# Altium footprint library opm_lib.PcbLib: 32 footprints (part 2 of 2)
Each footprint in its own frame and in the unit in brackets; x right, y up, seen from the top. Pads: shape width x height; smd on the part's side, far side on the other; paste and mask are expansions set on the pad; w line width, h text height; cw(c..) or ccw(c..) is an arc to the next point about the centre after c.
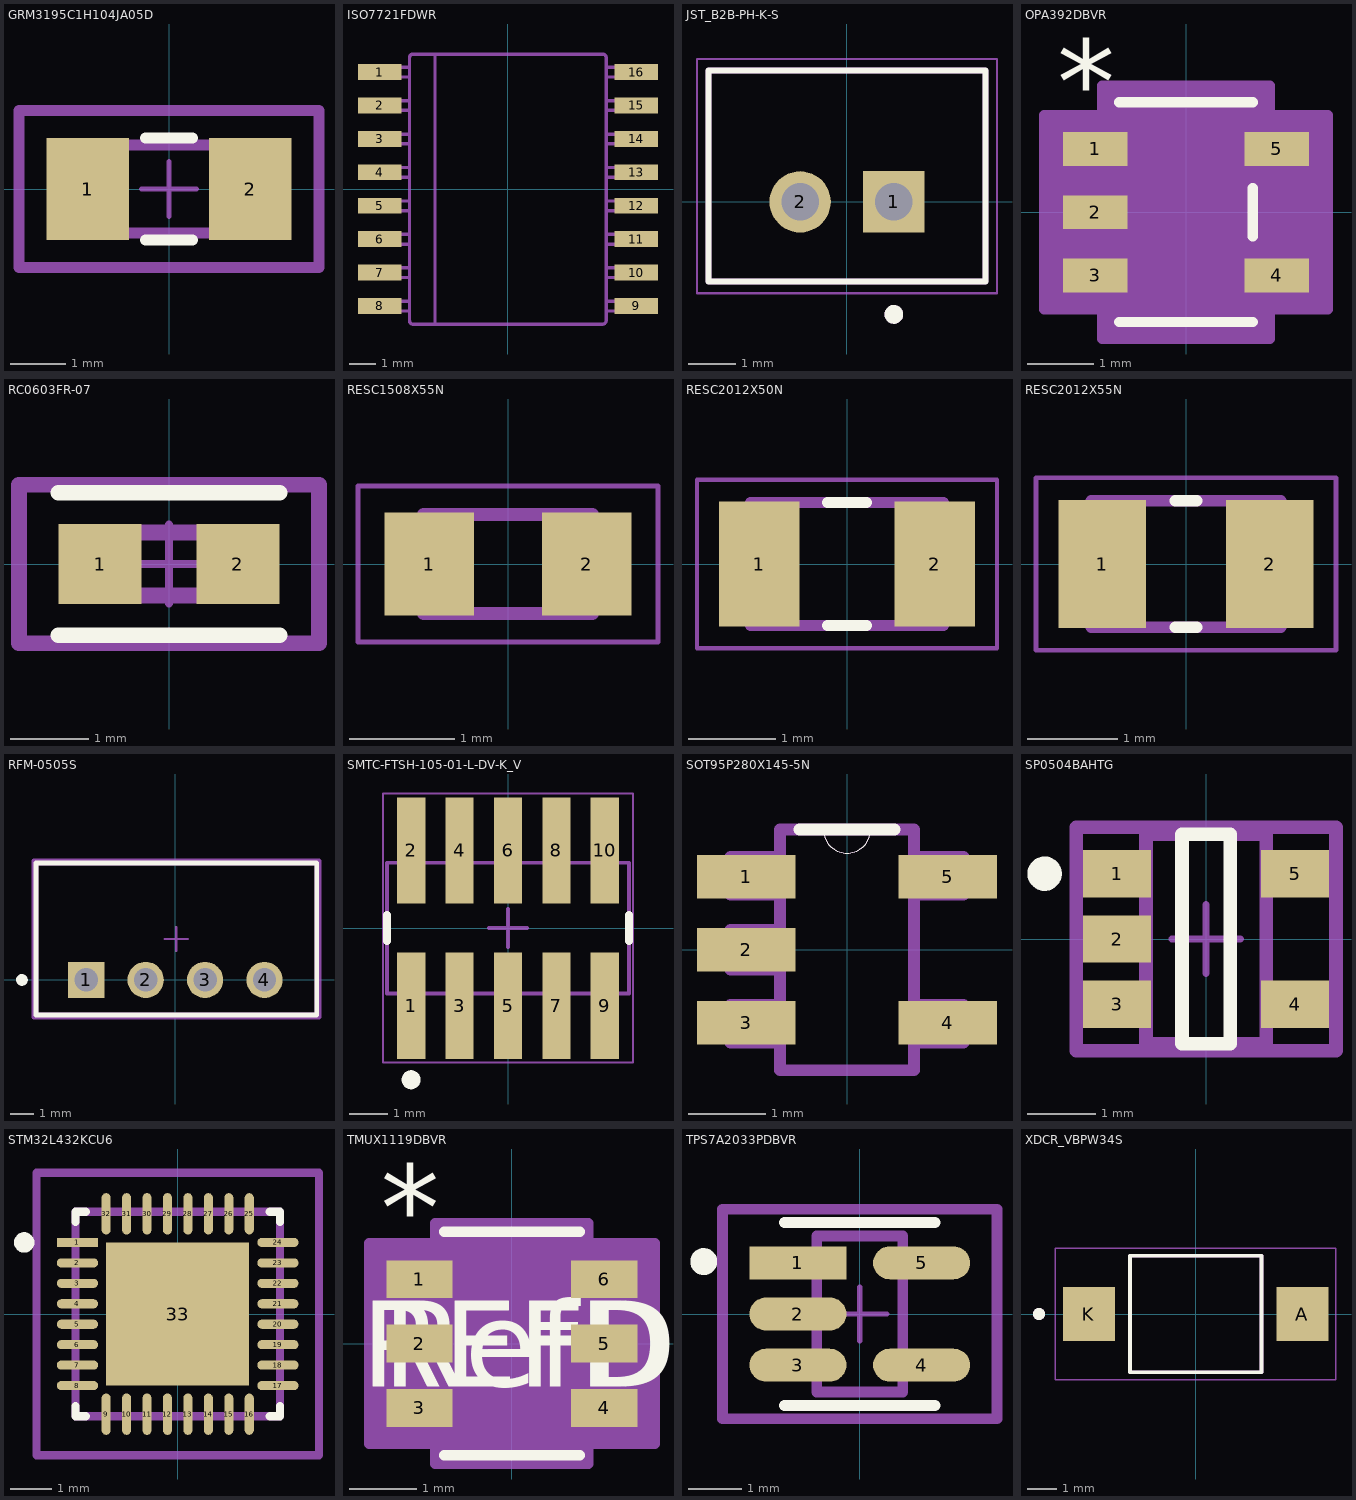
[diagram p1: the footprints below, top view; thin cyan lines are the x and y axes]

## GRM3195C1H104JA05D [mm]
pads (2):
  rect 1.506x1.858 smd paste+0 mask+0: 1(-1.476,0) 2(1.476,0)
Top Overlay:
  lines w0.2: -0.423,-0.929 0.423,-0.929 ; -0.423,0.929 0.423,0.929
Top 3D Body:
  lines w0.2: -1.6,-0.8 1.6,-0.8 1.6,0.8 -1.6,0.8 -1.6,-0.8
Board:
  lines w0.2: -2.729,-1.429 2.729,-1.429 2.729,1.429 -2.729,1.429 -2.729,-1.429
Top Assembly:
  lines w0.2: -2.729,-1.429 2.729,-1.429 2.729,1.429 -2.729,1.429 -2.729,-1.429
  text ".Designator" at 0,0.188 h1
Top Component Center:
  lines w0.1: -0.5,0 0.5,0 ; 0,-0.5 0,0.5
3D body "Cap_Murata_GRM3195C1H273JA01D_eec.STEP": height 0.25, standoff 0, extent -2.729,-1.429 2.729,1.429

## ISO7721FDWR [mm]
pads (16):
  rect 1.65x0.6 smd paste+0 mask+0: 1(-4.875,4.445) 2(-4.875,3.175) 3(-4.875,1.905) 4(-4.875,0.635) 5(-4.875,-0.635) 6(-4.875,-1.905) 7(-4.875,-3.175) 8(-4.875,-4.445) 9(4.875,-4.445) 10(4.875,-3.175) 11(4.875,-1.905) 12(4.875,-0.635) 13(4.875,0.635) 14(4.875,1.905) 15(4.875,3.175) 16(4.875,4.445)
Top Overlay:
  text ".Designator" at -3.492,-0.635 h1.27
Mechanical 13:
  lines w0.1: -2.775,-5.135 -2.775,5.127
  lines w0.127: -3.74,-4.633 -5.15,-4.633 -5.15,-4.265 -3.74,-4.265 ; -3.74,-3.363 -5.15,-3.363 -5.15,-2.995 -3.74,-2.995 ; -3.74,-2.093 -5.15,-2.093 -5.15,-1.725 -3.74,-1.725 ; -3.74,-0.823 -5.15,-0.823 -5.15,-0.455 -3.74,-0.455 ; -3.74,0.447 -5.15,0.447 -5.15,0.815 -3.74,0.815 ; -3.74,1.717 -5.15,1.717 -5.15,2.085 -3.74,2.085 ; -3.74,2.987 -5.15,2.987 -5.15,3.355 -3.74,3.355 ; -3.74,4.257 -5.15,4.257 -5.15,4.625 -3.74,4.625 ; 3.74,-4.633 5.15,-4.633 5.15,-4.265 3.74,-4.265 ; 3.74,-3.363 5.15,-3.363 5.15,-2.995 3.74,-2.995 ; 3.74,-2.093 5.15,-2.093 5.15,-1.725 3.74,-1.725 ; 3.74,-0.823 5.15,-0.823 5.15,-0.455 3.74,-0.455 ; 3.74,0.447 5.15,0.447 5.15,0.815 3.74,0.815 ; 3.74,1.717 5.15,1.717 5.15,2.085 3.74,2.085 ; 3.74,2.987 5.15,2.987 5.15,3.355 3.74,3.355 ; 3.74,4.257 5.15,4.257 5.15,4.625 3.74,4.625 ; -3.74,-5.008 ccw(c-3.613,-5.008) -3.614,-5.135 3.601,-5.135 ccw(c3.6,-5.008) 3.727,-5.008 3.727,5 ccw(c3.6,5) 3.601,5.127 -3.614,5.127 ccw(c-3.613,5) -3.74,5 -3.74,-5.008
  text ".Designator" at -3.492,-0.635 h1.27
3D body "DW0016B.stp": height 2.59, standoff 0, extent -5.174,-5.154 5.161,5.146

## JST_B2B-PH-K-S [mm]
pads (2):
  rect 1.308x1.308 / inner round 1.308 / far side rect 1.308x1.308 hole 0.8: 1(1,0)
  round 1.308 hole 0.8: 2(-1,0)
Top Overlay:
  circle w0.2: c1,-2.4 r0.1
  lines w0.127: -2.95,-1.7 -2.95,2.8 2.95,2.8 2.95,-1.7 -2.95,-1.7
Mechanical 13:
  circle w0.2: c1,-2.4 r0.1
  lines w0.127: -2.95,-1.7 2.95,-1.7 2.95,2.8 -2.95,2.8 -2.95,-1.7
Mechanical 15:
  lines w0.05: -3.2,-1.95 3.2,-1.95 3.2,3.05 -3.2,3.05 -3.2,-1.95
3D body "step_temp.STEP": height 6, standoff -3.4, extent -2.95,-1.7 2.95,2.8

## OPA392DBVR [mil]
pads (5):
  rect 38.28x20 smd paste+0 mask+0: 1(-53.64,37.4) 2(-53.64,0) 3(-53.64,-37.4) 4(53.64,-37.4) 5(53.64,37.4)
Top Overlay:
  lines w6: -39.5,-65 39.5,-65 ; -39.5,65 39.5,65 ; 39.5,-14.3 39.5,14.3
  text ".Designator" at -137.5,-25 h50
  text "*" at -76.14,52.4 h50
Mechanical 13:
  lines w1: -12,60 ccw(c0,60) 12,60 ; -59,-47.4 -59,-27.4 -34.5,-27.4 -34.5,-47.4 -59,-47.4 ; -59,-10 -59,10 -34.5,10 -34.5,-10 -59,-10 ; -59,27.4 -59,47.4 -34.5,47.4 -34.5,27.4 -59,27.4 ; -34.5,-60 34.5,-60 34.5,60 -34.5,60 -34.5,-60 ; 34.5,-47.4 34.5,-27.4 59,-27.4 59,-47.4 34.5,-47.4 ; 34.5,27.4 34.5,47.4 59,47.4 59,27.4 34.5,27.4
  text "*" at -37,9.4 h50
  text ".Designator" at -137.5,-25 h50
Mechanical 15:
  region: 49.5,-75 -49.5,-75 -49.5,-57.4 -84,-57.4 -84,57.4 -49.5,57.4 -49.5,75 49.5,75 49.5,57.4 84,57.4 84,-57.4 49.5,-57.4
  lines w6: -84,-57.4 -49.5,-57.4 -49.5,-75 49.5,-75 49.5,-57.4 84,-57.4 84,57.4 49.5,57.4 49.5,75 -49.5,75 -49.5,57.4 -84,57.4 -84,-57.4
3D body "SOT-23-5_DBV_TEX.step": height 57.09, standoff 0, extent -59.02,-60 59.02,60

## RC0603FR-07 [mm]
pads (2):
  rect 1.059x1.012 smd paste+0 mask+0: 1(-0.877,0) 2(0.877,0)
Top Overlay:
  lines w0.2: -1.406,-0.906 1.406,-0.906 ; -1.406,0.906 1.406,0.906
Top 3D Body:
  lines w0.2: -0.8,-0.4 -0.8,0.4 0.8,0.4 0.8,-0.4 -0.8,-0.4
Board:
  lines w0.2: -1.906,-1.006 -1.906,1.006 1.906,1.006 1.906,-1.006 -1.906,-1.006
Top Assembly:
  lines w0.2: -1.906,-1.006 -1.906,1.006 1.906,1.006 1.906,-1.006 -1.906,-1.006
  text ".Designator" at 0,0.188 h1
Top Component Center:
  lines w0.1: -0.5,0 0.5,0 ; 0,-0.5 0,0.5
3D body "Res_Yageo_RC0603FR-07100KL_eec.STEP": height 0.25, standoff 0, extent -1.906,-1.006 1.906,1.006

## RESC1508X55N [mm]
pads (2):
  rect 0.85x0.98 smd: 1(-0.75,0) 2(0.75,0)
Mechanical 13:
  lines w0.127: -0.8,-0.47 0.8,-0.47 0.8,0.47 -0.8,0.47 -0.8,-0.47
Mechanical 15:
  lines w0.05: -1.425,-0.74 1.425,-0.74 1.425,0.74 -1.425,0.74 -1.425,-0.74
3D body "TNPW0603100KBXEN.STEP": height 0.54, standoff -0.01, extent -0.775,-0.425 0.775,0.425

## RESC2012X50N [mm]
pads (2):
  rect 0.92x1.42 smd: 1(-1,0) 2(1,0)
Top Overlay:
  lines w0.127: -0.22,-0.7 0.22,-0.7 ; -0.22,0.7 0.22,0.7
Mechanical 13:
  lines w0.127: -1.1,-0.7 1.1,-0.7 1.1,0.7 -1.1,0.7 -1.1,-0.7
Mechanical 15:
  lines w0.05: -1.71,-0.96 1.71,-0.96 1.71,0.96 -1.71,0.96 -1.71,-0.96
3D body "step_temp.STEP": height 0.5, standoff 0, extent -1,-0.625 1,0.625

## RESC2012X55N [mm]
pads (2):
  rect 0.97x1.42 smd paste+0 mask+0.102: 1(-0.93,0) 2(0.93,0)
Top Overlay:
  lines w0.127: -0.12,-0.7 0.12,-0.7 ; -0.12,0.7 0.12,0.7
Mechanical 13:
  lines w0.127: -1.05,-0.7 -1.05,0.7 1.05,0.7 1.05,-0.7 -1.05,-0.7
Mechanical 15:
  lines w0.05: -1.665,-0.96 -1.665,0.96 1.665,0.96 1.665,-0.96 -1.665,-0.96
3D body "step_temp.STEP": height 0.55, standoff 0, extent -1,-0.625 1,0.625

## RFM-0505S [mm]
pads (4):
  rect 1.55x1.55 hole 1 paste-2539.97 mask+0: 1(-3.81,0)
  round 1.55 hole 1 paste-2539.97 mask+0: 2(-1.27,0) 3(1.27,0) 4(3.81,0)
Top Overlay:
  circle w0.25: c-6.56,0 r0.125
  lines w0.2: -5.96,-1.5 -5.96,5 6.04,5 6.04,-1.5 -5.96,-1.5
Top 3D Body:
  lines w0.2: -5.96,-1.5 -5.96,5 6.04,5 6.04,-1.5 -5.96,-1.5
Board:
  lines w0.2: -6.06,-1.6 -6.06,5.1 6.14,5.1 6.14,-1.6 -6.06,-1.6
Top Assembly:
  lines w0.2: -6.06,-1.6 -6.06,5.1 6.14,5.1 6.14,-1.6 -6.06,-1.6
  text ".Designator" at 0.04,1.938 h1
Top Component Center:
  lines w0.1: -0.46,1.75 0.54,1.75 ; 0.04,1.25 0.04,2.25
3D body "IC_Recom_Power_RFM-0505S_eec.STEP": height 0.25, standoff 0, extent -6.06,-1.6 6.14,5.1

## SMTC-FTSH-105-01-L-DV-K_V [mm]
pads (10):
  rect 0.74x2.79 smd: 1(-2.54,-2.035) 2(-2.54,2.035) 3(-1.27,-2.035) 4(-1.27,2.035) 5(0,-2.035) 6(0,2.035) 7(1.27,-2.035) 8(1.27,2.035) 9(2.54,-2.035) 10(2.54,2.035)
Top Overlay:
  circle w0.25: c-2.54,-3.98 r0.125
  lines w0.2: -3.175,-0.341 -3.175,0.341 ; 3.175,-0.341 3.175,0.341
Mechanical 13:
  lines w0.1: -3.175,-1.715 3.175,-1.715 3.175,1.715 -3.175,1.715 -3.175,-1.715
Mechanical 15:
  lines w0.05: -3.275,-3.53 3.275,-3.53 3.275,3.53 -3.275,3.53 -3.275,-3.53
  lines w0.1: -0.5,0 0.5,0 ; 0,-0.5 0,0.5
3D body "FTSH-105-01-L-DV-K.stp": height 6.12, standoff 0, extent -3.175,-2.921 3.175,2.921

## SOT95P280X145-5N [mil]
pads (5):
  rect 50x22 smd: 1(-51,37) 2(-51,0) 3(-51,-37) 4(51,-37) 5(51,37)
Top Overlay:
  lines w0: -12,61 ccw(c0,61) 12,61
  lines w6: -24,61 -12,61 12,61 24,61
Mechanical 13:
  lines w0: -12,61 ccw(c0,61) 12,61
  lines w6: -34,-47 -59,-47 -59,-28 -34,-28 ; -34,-47 -34,-28 ; -34,-47 -34,-61 34,-61 34,-47 ; -34,-28 -34,-10 ; -34,-10 -59,-10 -59,10 -34,10 ; -34,-10 -34,10 ; -34,10 -34,28 ; -34,28 -59,28 -59,47 -34,47 ; -34,28 -34,47 ; -34,47 -34,61 -12,61 12,61 34,61 34,47 ; 34,-47 59,-47 59,-28 34,-28 ; 34,-47 34,-28 ; 34,-28 34,28 ; 34,28 59,28 59,47 34,47 ; 34,28 34,47
3D body "step_temp.STEP": height 57.09, standoff 0, extent -53.15,-57.09 53.15,57.09

## SP0504BAHTG [mm]
pads (5):
  rect 0.99x0.69 smd paste+0 mask+0: 1(-1.295,0.95) 2(-1.295,0) 3(-1.295,-0.95) 4(1.295,-0.95) 5(1.295,0.95)
Top Overlay:
  circle w0.25: c-2.35,0.95 r0.125
  lines w0.2: -0.35,-1.525 -0.35,1.525 0.35,1.525 0.35,-1.525 -0.35,-1.525
Top 3D Body:
  lines w0.2: -0.875,-1.525 -0.875,1.525 0.875,1.525 0.875,-1.525 -0.875,-1.525
Board:
  lines w0.2: -1.89,-1.625 -1.89,1.625 1.89,1.625 1.89,-1.625 -1.89,-1.625
Top Assembly:
  lines w0.2: -1.89,-1.625 -1.89,1.625 1.89,1.625 1.89,-1.625 -1.89,-1.625
  text ".Designator" at 0,0.188 h1
Top Component Center:
  lines w0.1: -0.5,0 0.5,0 ; 0,-0.5 0,0.5
3D body "Diode_Littelfuse_SP0504BAHTG_eec.STEP": height 0.25, standoff 0, extent -1.89,-1.625 1.89,1.625

## STM32L432KCU6 [mm]
pads (33):
  rect 1.01x0.222 smd paste+0 mask+0: 1(-2.451,1.75)
  rrect100% 1.01x0.222 smd paste+0 mask+0: 2(-2.451,1.25) 3(-2.451,0.75) 4(-2.451,0.25) 5(-2.451,-0.25) 6(-2.451,-0.75) 7(-2.451,-1.25) 8(-2.451,-1.75) 17(2.451,-1.75) 18(2.451,-1.25) 19(2.451,-0.75) 20(2.451,-0.25) 21(2.451,0.25) 22(2.451,0.75) 23(2.451,1.25) 24(2.451,1.75)
  rrect100% 0.222x1.01 smd paste+0 mask+0: 9(-1.75,-2.451) 10(-1.25,-2.451) 11(-0.75,-2.451) 12(-0.25,-2.451) 13(0.25,-2.451) 14(0.75,-2.451) 15(1.25,-2.451) 16(1.75,-2.451) 25(1.75,2.451) 26(1.25,2.451) 27(0.75,2.451) 28(0.25,2.451) 29(-0.25,2.451) 30(-0.75,2.451) 31(-1.25,2.451) 32(-1.75,2.451)
  rect 3.5x3.5 smd paste-1000 mask+0: 33(0,0)
Top Overlay:
  circle w0.25: c-3.756,1.75 r0.125
  lines w0.2: -2.5,-2.25 -2.5,-2.5 -2.25,-2.5 ; -2.5,2.25 -2.5,2.5 -2.25,2.5 ; 2.25,-2.5 2.5,-2.5 2.5,-2.25 ; 2.25,2.5 2.5,2.5 2.5,2.25
Top Paste:
  rectangle: -1.107,-1.107 1.107,1.107
Top 3D Body:
  lines w0.2: -2.5,-2.5 2.5,-2.5 2.5,2.5 -2.5,2.5 -2.5,-2.5
Board:
  lines w0.2: -3.456,-3.456 3.456,-3.456 3.456,3.456 -3.456,3.456 -3.456,-3.456
Top Assembly:
  lines w0.2: -3.456,-3.456 3.456,-3.456 3.456,3.456 -3.456,3.456 -3.456,-3.456
  text ".Designator" at 0,0.188 h1
Top Component Center:
  lines w0.1: -0.5,0 0.5,0 ; 0,-0.5 0,0.5
3D body "IC_STMicroelectronics_STM32L432KCU6_eec.STEP": height 0.25, standoff 0, extent -3.456,-3.456 3.456,3.456

## TMUX1119DBVR [mil]
pads (6):
  rect 38.5x22 smd paste+0 mask+0: 1(-53.75,37.4) 2(-53.75,0) 3(-53.75,-37.4) 4(53.75,-37.4) 5(53.75,0) 6(53.75,37.4)
Top Overlay:
  lines w6: -39.5,-65 39.5,-65 ; -39.5,65 39.5,65
  text "REFDES" at -87.5,-25 h50
  text "*" at -76.25,54.4 h50
  text "RefDes" at -75,-25 h50
Mechanical 13:
  lines w0: -12,60 ccw(c0,60) 12,60
  lines w1: -59,-47.4 -59,-27.4 -34.5,-27.4 -34.5,-47.4 -59,-47.4 ; -59,-10 -59,10 -34.5,10 -34.5,-10 -59,-10 ; -59,27.4 -59,47.4 -34.5,47.4 -34.5,27.4 -59,27.4 ; -34.5,-60 34.5,-60 34.5,60 -34.5,60 -34.5,-60 ; 34.5,-47.4 34.5,-27.4 59,-27.4 59,-47.4 34.5,-47.4 ; 34.5,-10 34.5,10 59,10 59,-10 34.5,-10 ; 34.5,27.4 34.5,47.4 59,47.4 59,27.4 34.5,27.4
  text "*" at -32,7 h50
  text "RefDes2" at -87.5,-25 h50
Mechanical 15:
  region: -44.5,-58.4 -83,-58.4 -83,58.4 -44.5,58.4 -44.5,70 44.5,70 44.5,58.4 83,58.4 83,-58.4 44.5,-58.4 44.5,-70 -44.5,-70
  lines w6: -83,-58.4 -83,58.4 -44.5,58.4 -44.5,70 44.5,70 44.5,58.4 83,58.4 83,-58.4 44.5,-58.4 44.5,-70 -44.5,-70 -44.5,-58.4 -83,-58.4
3D body "SOT-23-6_DBV_TEX.step": height 57.09, standoff 0, extent -59.02,-60 59.02,60

## TPS7A2033PDBVR [mm]
pads (5):
  rect 1.805x0.612 smd paste+0 mask+0: 1(-1.15,0.95)
  rrect100% 1.805x0.612 smd paste+0 mask+0: 2(-1.15,0) 3(-1.15,-0.95) 4(1.15,-0.95) 5(1.15,0.95)
Top Overlay:
  circle w0.25: c-2.903,0.975 r0.125
  lines w0.2: -1.4,-1.7 1.4,-1.7 ; -1.4,1.7 1.4,1.7
Top 3D Body:
  lines w0.2: -0.8,-1.45 0.8,-1.45 0.8,1.45 -0.8,1.45 -0.8,-1.45
Board:
  lines w0.2: -2.553,-1.95 2.553,-1.95 2.553,1.95 -2.553,1.95 -2.553,-1.95
Top Assembly:
  lines w0.2: -2.553,-1.95 2.553,-1.95 2.553,1.95 -2.553,1.95 -2.553,-1.95
  text ".Designator" at 0,-0.001 h1
Top Component Center:
  lines w0.1: -0.5,0 0.5,0 ; 0,-0.5 0,0.5
3D body "IC_Texas_Instruments_SN74AHC1G00DBVR_eec.STEP": height 0.25, standoff 0, extent -2.553,-1.95 2.553,1.95

## XDCR_VBPW34S [mm]
pads (2):
  rect 1.75x1.8 smd: A(3.575,0) K(-3.575,0)
Top Overlay:
  circle w0.2: c-5.25,0 r0.1
  lines w0.127: -2.2,-1.95 -2.2,1.95 2.2,1.95 2.2,-1.95 -2.2,-1.95
Mechanical 13:
  circle w0.2: c-5.25,0 r0.1
  lines w0.127: -2.2,-1.95 2.2,-1.95 2.2,1.95 -2.2,1.95 -2.2,-1.95
Mechanical 15:
  lines w0.05: -4.7,-2.2 4.7,-2.2 4.7,2.2 -4.7,2.2 -4.7,-2.2
3D body "step_temp.STEP": height 1.4, standoff 0, extent -3.2,-1.95 3.2,1.95